# Altium footprint library SCPHS136.PcbLib: 1 footprints
Each footprint in its own frame and in the unit in brackets; x right, y up, seen from the top. Pads: shape width x height; smd on the part's side, far side on the other; paste and mask are expansions set on the pad; w line width, h text height; cw(c..) or ccw(c..) is an arc to the next point about the centre after c.
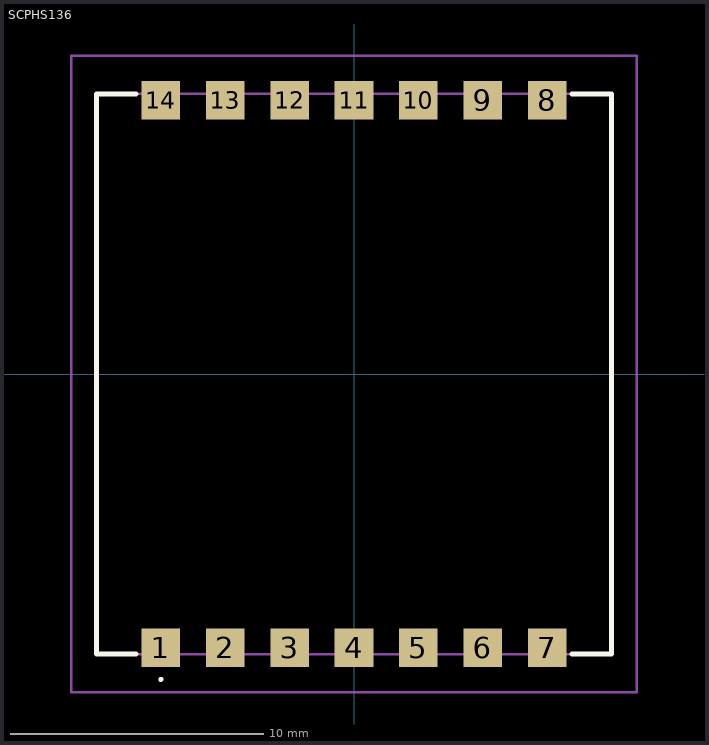
[diagram p0: the footprint, top view; thin cyan lines are the x and y axes]

## SCPHS136 [mm]
pads (14):
  rect 1.52x1.52 smd: 1(-7.62,-10.795) 2(-5.08,-10.795) 3(-2.54,-10.795) 4(0,-10.795) 5(2.54,-10.795) 6(5.08,-10.795) 7(7.62,-10.795) 8(7.62,10.795) 9(5.08,10.795) 10(2.54,10.795) 11(0,10.795) 12(-2.54,10.795) 13(-5.08,10.795) 14(-7.62,10.795)
Top Overlay:
  lines w0.1: -7.62,-12.1 -7.62,-12.1 ; -7.62,-12.1 ccw(c-7.62,-12.05) -7.62,-12 ; -7.62,-12.1 cw(c-7.62,-12.05) -7.62,-12 ; -7.62,-12 -7.62,-12
  lines w0.2: -8.6,-11.05 -10.16,-11.05 -10.16,11.05 -8.6,11.05 ; 8.6,-11.05 10.16,-11.05 10.16,11.05 8.6,11.05
Mechanical 15:
  lines w0.1: -10.16,-11.05 10.16,-11.05 10.16,11.05 -10.16,11.05 -10.16,-11.05
Mechanical 20:
  lines w0.1: -11.16,-12.555 11.16,-12.555 11.16,12.555 -11.16,12.555 -11.16,-12.555